# Altium footprint library Capacitors.PcbLib: 70 footprints (part 2 of 5)
Each footprint in its own frame and in the unit in brackets; x right, y up, seen from the top. Pads: shape width x height; smd on the part's side, far side on the other; paste and mask are expansions set on the pad; w line width, h text height; cw(c..) or ccw(c..) is an arc to the next point about the centre after c.
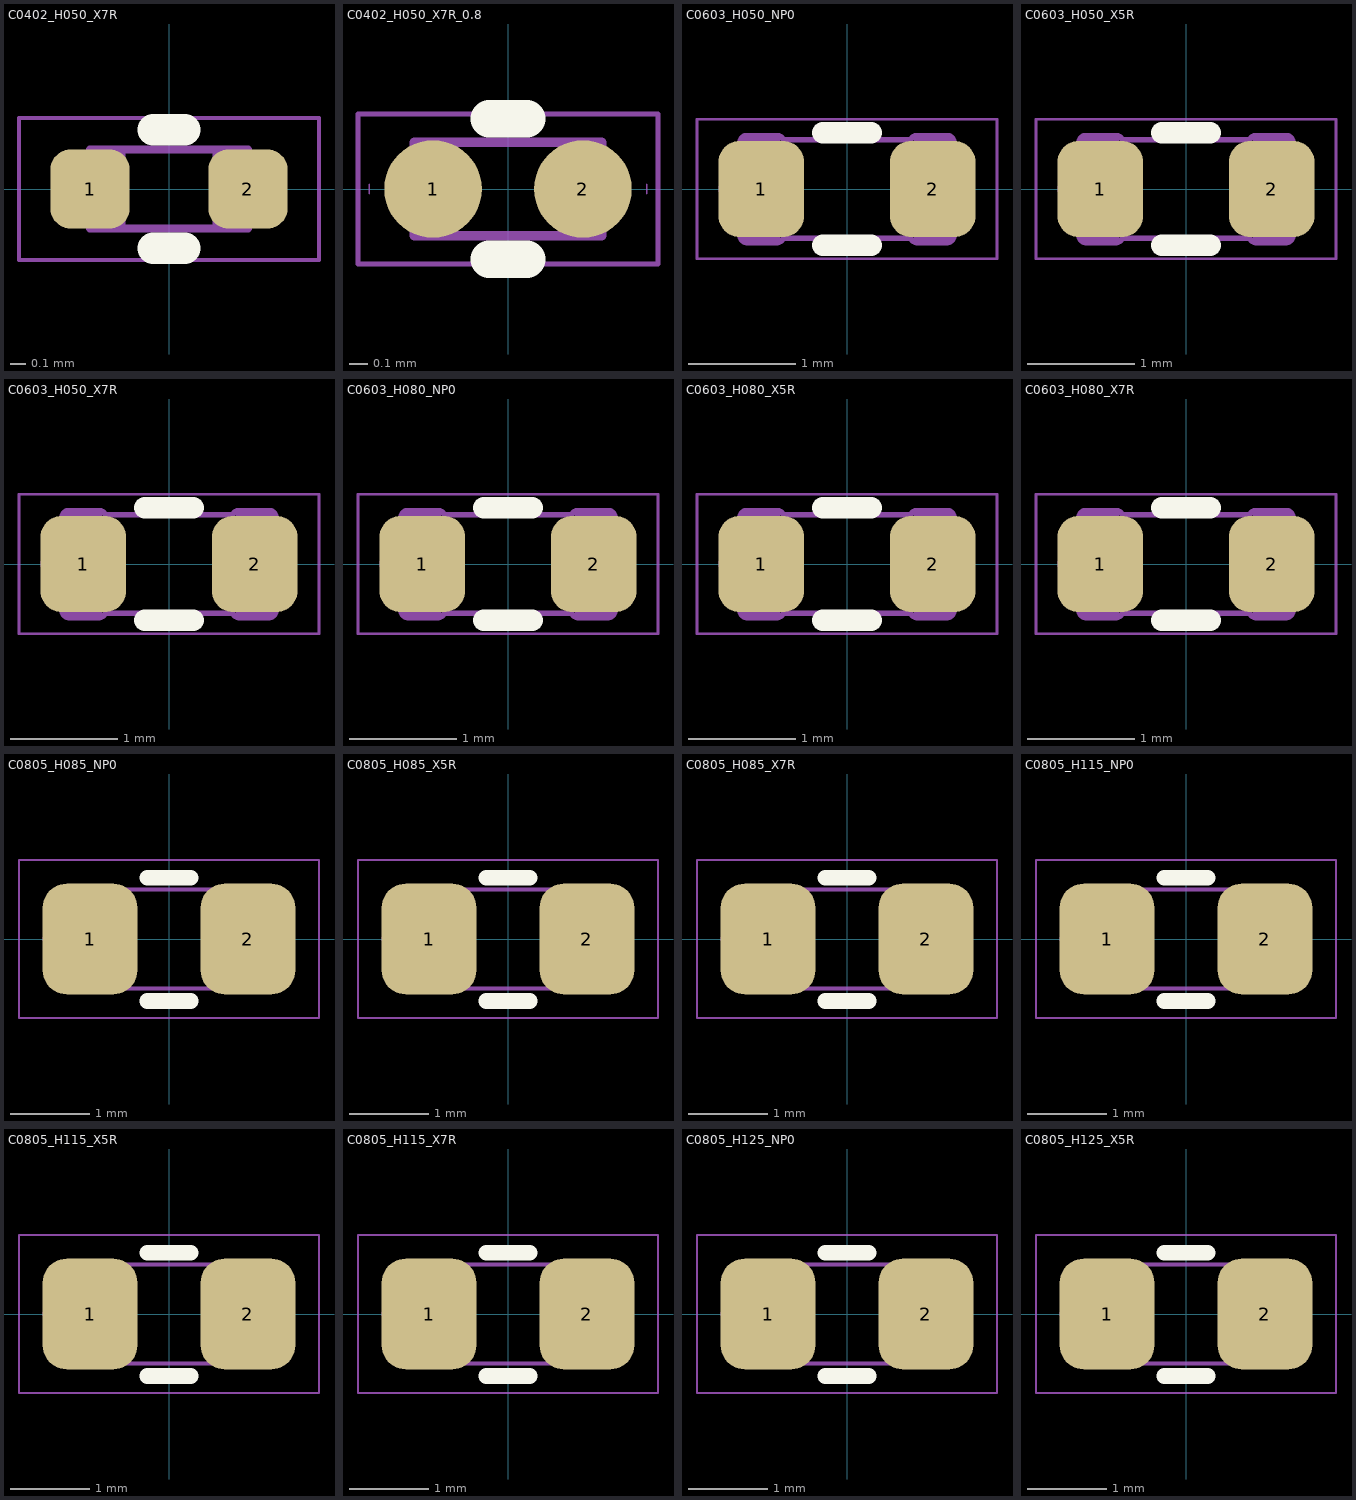
[diagram p1: the footprints below, top view; thin cyan lines are the x and y axes]

## C0402_H050_X7R [mm] "SMD040210X05MM"
height 0.5
pads (2):
  rrect50% 0.5x0.5 smd mask+0.05: 1(-0.5,0) 2(0.5,0)
Top Overlay:
  lines w0.2: -0.1,-0.375 0.1,-0.375 ; -0.1,0.375 0.1,0.375
Top Courtyard:
  lines w0.025: -0.95,-0.45 -0.95,0.45 0.95,0.45 0.95,-0.45 -0.95,-0.45
Top Assembly:
  lines w0.01: -0.74,-0.025 -0.74,0.025 ; 0.74,-0.025 0.74,0.025
  lines w0.05: -0.45,-0.25 -0.45,0.25 ; -0.4,-0.25 -0.4,0.25 ; -0.35,-0.25 -0.35,0.25 ; -0.3,-0.25 -0.3,0.25 ; 0.3,-0.25 0.3,0.25 ; 0.35,-0.25 0.35,0.25 ; 0.4,-0.25 0.4,0.25 ; 0.45,-0.25 0.45,0.25 ; -0.5,-0.25 0.5,-0.25 0.5,0.25 -0.5,0.25 -0.5,-0.25
  text ".Designator" at -2.252,0.574 h1
3D body "C0402_H050_X7R.x_t": height 0.5, standoff 0, extent -0.5,-0.25 0.5,0.25

## C0402_H050_X7R_0.8 [mm] "SMD040210X05MM for BGA with 0.8mm pitch"
height 0.5
pads (2):
  round 0.52 smd paste-0.025 mask+0.04: 1(-0.4,0) 2(0.4,0)
Top Overlay:
  lines w0.2: -0.1,-0.375 0.1,-0.375 ; -0.1,0.375 0.1,0.375
Top Courtyard:
  lines w0.025: -0.8,-0.4 0.8,-0.4 0.8,0.4 -0.8,0.4 -0.8,-0.4
Top Assembly:
  lines w0.01: -0.74,-0.025 -0.74,0.025 ; 0.74,-0.025 0.74,0.025
  lines w0.05: -0.45,-0.25 -0.45,0.25 ; -0.4,-0.25 -0.4,0.25 ; -0.35,-0.25 -0.35,0.25 ; -0.3,-0.25 -0.3,0.25 ; 0.3,-0.25 0.3,0.25 ; 0.35,-0.25 0.35,0.25 ; 0.4,-0.25 0.4,0.25 ; 0.45,-0.25 0.45,0.25 ; -0.5,-0.25 0.5,-0.25 0.5,0.25 -0.5,0.25 -0.5,-0.25
  text ".Designator" at -2.252,0.574 h1
3D body "C0402_H050_X7R.x_t": height 0.5, standoff 0, extent -0.5,-0.25 0.5,0.25

## C0603_H050_NP0 [mm] "SMD060316X08MM"
height 0.5
pads (2):
  rrect50% 0.8x0.9 smd mask+0.05: 1(-0.8,0) 2(0.8,0)
Top Overlay:
  lines w0.2: -0.225,-0.525 0.225,-0.525 ; -0.225,0.525 0.225,0.525
Top Courtyard:
  lines w0.025: -1.4,-0.65 -1.4,0.65 1.4,0.65 1.4,-0.65 -1.4,-0.65
Top Assembly:
  lines w0.01: -1.19,-0.025 -1.19,0.025 ; 1.19,-0.025 1.19,0.025
  lines w0.05: -0.95,-0.5 -0.95,0.5 ; -0.9,-0.5 -0.9,0.5 ; -0.85,-0.5 -0.85,0.5 ; -0.8,-0.5 -0.8,0.5 ; -0.75,-0.5 -0.75,0.5 ; -0.7,-0.5 -0.7,0.5 ; -0.65,-0.5 -0.65,0.5 ; 0.596,0.459 cw(c0.652,0.44) 0.653,0.5 0.656,0.5 0.936,0.5 cw(c0.936,0.44) 0.996,0.44 0.996,-0.44 cw(c0.936,-0.44) 0.936,-0.5 0.656,-0.5 0.652,-0.5 ; 0.65,-0.5 0.65,0.5 ; 0.7,-0.5 0.7,0.5 ; 0.75,-0.5 0.75,0.5 ; 0.8,-0.5 0.8,0.5 ; 0.85,-0.5 0.85,0.5 ; 0.9,-0.5 0.9,0.5 ; 0.95,-0.5 0.95,0.5 ; -0.596,-0.46 cw(c-0.652,-0.44) -0.652,-0.5 -0.656,-0.5 -0.936,-0.5 cw(c-0.936,-0.44) -0.996,-0.44 -0.996,0.44 cw(c-0.936,0.44) -0.936,0.5 -0.656,0.5 -0.653,0.5 cw(c-0.652,0.44) -0.596,0.46 ; -0.596,-0.46 0.596,-0.46 ; -0.596,-0.46 -0.596,-0.442 -0.596,-0.4 -0.596,0.4 -0.596,0.442 -0.596,0.46 ; -0.596,0.46 0.596,0.46 0.596,0.442 0.596,0.4 0.596,-0.4 0.596,-0.442 0.596,-0.46 ; 0.596,-0.46 ccw(c0.652,-0.44) 0.652,-0.5 ; 0.653,-0.5 0.653,-0.5
  text ".Designator" at -2.252,0.624 h1
3D body "C0603_H050_NP0.x_t": height 0.5, standoff 0, extent -0.8,-0.4 0.8,0.4

## C0603_H050_X5R [mm] "SMD060316X08MM"
height 0.5
pads (2):
  rrect50% 0.8x0.9 smd mask+0.05: 1(-0.8,0) 2(0.8,0)
Top Overlay:
  lines w0.2: -0.225,-0.525 0.225,-0.525 ; -0.225,0.525 0.225,0.525
Top Courtyard:
  lines w0.025: -1.4,-0.65 1.4,-0.65 1.4,0.65 -1.4,0.65 -1.4,-0.65
Top Assembly:
  lines w0.01: -1.19,-0.025 -1.19,0.025 ; 1.19,-0.025 1.19,0.025
  lines w0.05: -0.95,-0.5 -0.95,0.5 ; -0.9,-0.5 -0.9,0.5 ; -0.85,-0.5 -0.85,0.5 ; -0.8,-0.5 -0.8,0.5 ; -0.75,-0.5 -0.75,0.5 ; -0.7,-0.5 -0.7,0.5 ; -0.65,-0.5 -0.65,0.5 ; 0.596,0.459 cw(c0.652,0.44) 0.653,0.5 0.656,0.5 0.936,0.5 cw(c0.936,0.44) 0.996,0.44 0.996,-0.44 cw(c0.936,-0.44) 0.936,-0.5 0.656,-0.5 0.652,-0.5 ; 0.65,-0.5 0.65,0.5 ; 0.7,-0.5 0.7,0.5 ; 0.75,-0.5 0.75,0.5 ; 0.8,-0.5 0.8,0.5 ; 0.85,-0.5 0.85,0.5 ; 0.9,-0.5 0.9,0.5 ; 0.95,-0.5 0.95,0.5 ; -0.596,-0.46 cw(c-0.652,-0.44) -0.652,-0.5 -0.656,-0.5 -0.936,-0.5 cw(c-0.936,-0.44) -0.996,-0.44 -0.996,0.44 cw(c-0.936,0.44) -0.936,0.5 -0.656,0.5 -0.653,0.5 cw(c-0.652,0.44) -0.596,0.46 ; -0.596,-0.46 0.596,-0.46 ; -0.596,-0.46 -0.596,-0.442 -0.596,-0.4 -0.596,0.4 -0.596,0.442 -0.596,0.46 ; -0.596,0.46 0.596,0.46 0.596,0.442 0.596,0.4 0.596,-0.4 0.596,-0.442 0.596,-0.46 ; 0.596,-0.46 ccw(c0.652,-0.44) 0.652,-0.5 ; 0.653,-0.5 0.653,-0.5
  text ".Designator" at -2.252,0.624 h1
3D body "C0603_H050_X5R.x_t": height 0.5, standoff 0, extent -0.8,-0.4 0.8,0.4

## C0603_H050_X7R [mm] "SMD060316X08MM"
height 0.5
pads (2):
  rrect50% 0.8x0.9 smd mask+0.05: 1(-0.8,0) 2(0.8,0)
Top Overlay:
  lines w0.2: -0.225,-0.525 0.225,-0.525 ; -0.225,0.525 0.225,0.525
Top Courtyard:
  lines w0.025: -1.4,-0.65 -1.4,0.65 1.4,0.65 1.4,-0.65 -1.4,-0.65
Top Assembly:
  lines w0.01: -1.19,-0.025 -1.19,0.025 ; 1.19,-0.025 1.19,0.025
  lines w0.05: -0.95,-0.5 -0.95,0.5 ; -0.9,-0.5 -0.9,0.5 ; -0.85,-0.5 -0.85,0.5 ; -0.8,-0.5 -0.8,0.5 ; -0.75,-0.5 -0.75,0.5 ; -0.7,-0.5 -0.7,0.5 ; -0.65,-0.5 -0.65,0.5 ; 0.596,0.459 cw(c0.652,0.44) 0.653,0.5 0.656,0.5 0.936,0.5 cw(c0.936,0.44) 0.996,0.44 0.996,-0.44 cw(c0.936,-0.44) 0.936,-0.5 0.656,-0.5 0.652,-0.5 ; 0.65,-0.5 0.65,0.5 ; 0.7,-0.5 0.7,0.5 ; 0.75,-0.5 0.75,0.5 ; 0.8,-0.5 0.8,0.5 ; 0.85,-0.5 0.85,0.5 ; 0.9,-0.5 0.9,0.5 ; 0.95,-0.5 0.95,0.5 ; -0.596,-0.46 cw(c-0.652,-0.44) -0.652,-0.5 -0.656,-0.5 -0.936,-0.5 cw(c-0.936,-0.44) -0.996,-0.44 -0.996,0.44 cw(c-0.936,0.44) -0.936,0.5 -0.656,0.5 -0.653,0.5 cw(c-0.652,0.44) -0.596,0.46 ; -0.596,-0.46 -0.596,-0.442 -0.596,-0.4 -0.596,0.4 -0.596,0.442 -0.596,0.46 ; -0.596,-0.46 0.596,-0.46 ; -0.596,0.46 0.596,0.46 0.596,0.442 0.596,0.4 0.596,-0.4 0.596,-0.442 0.596,-0.46 ; 0.596,-0.46 ccw(c0.652,-0.44) 0.652,-0.5 ; 0.653,-0.5 0.653,-0.5
  text ".Designator" at -2.252,0.624 h1
3D body "C0603_H050_X7R.x_t": height 0.5, standoff 0, extent -0.8,-0.4 0.8,0.4

## C0603_H080_NP0 [mm] "SMD060316X08MM"
height 0.8
pads (2):
  rrect50% 0.8x0.9 smd mask+0.05: 1(-0.8,0) 2(0.8,0)
Top Overlay:
  lines w0.2: -0.225,-0.525 0.225,-0.525 ; -0.225,0.525 0.225,0.525
Top Courtyard:
  lines w0.025: -1.4,-0.65 -1.4,0.65 1.4,0.65 1.4,-0.65 -1.4,-0.65
Top Assembly:
  lines w0.01: -1.19,-0.025 -1.19,0.025 ; 1.19,-0.025 1.19,0.025
  lines w0.05: -0.95,-0.5 -0.95,0.5 ; -0.9,-0.5 -0.9,0.5 ; -0.85,-0.5 -0.85,0.5 ; -0.8,-0.5 -0.8,0.5 ; -0.75,-0.5 -0.75,0.5 ; -0.7,-0.5 -0.7,0.5 ; -0.65,-0.5 -0.65,0.5 ; 0.596,0.459 cw(c0.652,0.44) 0.653,0.5 0.656,0.5 0.936,0.5 cw(c0.936,0.44) 0.996,0.44 0.996,-0.44 cw(c0.936,-0.44) 0.936,-0.5 0.656,-0.5 0.652,-0.5 ; 0.65,-0.5 0.65,0.5 ; 0.7,-0.5 0.7,0.5 ; 0.75,-0.5 0.75,0.5 ; 0.8,-0.5 0.8,0.5 ; 0.85,-0.5 0.85,0.5 ; 0.9,-0.5 0.9,0.5 ; 0.95,-0.5 0.95,0.5 ; -0.596,-0.46 cw(c-0.652,-0.44) -0.652,-0.5 -0.656,-0.5 -0.936,-0.5 cw(c-0.936,-0.44) -0.996,-0.44 -0.996,0.44 cw(c-0.936,0.44) -0.936,0.5 -0.656,0.5 -0.653,0.5 cw(c-0.652,0.44) -0.596,0.46 ; -0.596,-0.46 -0.596,-0.442 -0.596,-0.4 -0.596,0.4 -0.596,0.442 -0.596,0.46 ; -0.596,-0.46 0.596,-0.46 ; -0.596,0.46 0.596,0.46 0.596,0.442 0.596,0.4 0.596,-0.4 0.596,-0.442 0.596,-0.46 ; 0.596,-0.46 ccw(c0.652,-0.44) 0.652,-0.5 ; 0.653,-0.5 0.653,-0.5
  text ".Designator" at -2.252,0.624 h1
3D body "C0603_H080_NP0.x_t": height 0.8, standoff 0, extent -0.8,-0.4 0.8,0.4

## C0603_H080_X5R [mm] "SMD060316X08MM"
height 0.8
pads (2):
  rrect50% 0.8x0.9 smd mask+0.05: 1(-0.8,0) 2(0.8,0)
Top Overlay:
  lines w0.2: -0.225,-0.525 0.225,-0.525 ; -0.225,0.525 0.225,0.525
Top Courtyard:
  lines w0.025: -1.4,-0.65 -1.4,0.65 1.4,0.65 1.4,-0.65 -1.4,-0.65
Top Assembly:
  lines w0.01: -1.19,-0.025 -1.19,0.025 ; 1.19,-0.025 1.19,0.025
  lines w0.05: -0.95,-0.5 -0.95,0.5 ; -0.9,-0.5 -0.9,0.5 ; -0.85,-0.5 -0.85,0.5 ; -0.8,-0.5 -0.8,0.5 ; -0.75,-0.5 -0.75,0.5 ; -0.7,-0.5 -0.7,0.5 ; -0.65,-0.5 -0.65,0.5 ; 0.596,0.459 cw(c0.652,0.44) 0.653,0.5 0.656,0.5 0.936,0.5 cw(c0.936,0.44) 0.996,0.44 0.996,-0.44 cw(c0.936,-0.44) 0.936,-0.5 0.656,-0.5 0.652,-0.5 ; 0.65,-0.5 0.65,0.5 ; 0.7,-0.5 0.7,0.5 ; 0.75,-0.5 0.75,0.5 ; 0.8,-0.5 0.8,0.5 ; 0.85,-0.5 0.85,0.5 ; 0.9,-0.5 0.9,0.5 ; 0.95,-0.5 0.95,0.5 ; -0.596,-0.46 cw(c-0.652,-0.44) -0.652,-0.5 -0.656,-0.5 -0.936,-0.5 cw(c-0.936,-0.44) -0.996,-0.44 -0.996,0.44 cw(c-0.936,0.44) -0.936,0.5 -0.656,0.5 -0.653,0.5 cw(c-0.652,0.44) -0.596,0.46 ; -0.596,-0.46 -0.596,-0.442 -0.596,-0.4 -0.596,0.4 -0.596,0.442 -0.596,0.46 ; -0.596,-0.46 0.596,-0.46 ; -0.596,0.46 0.596,0.46 0.596,0.442 0.596,0.4 0.596,-0.4 0.596,-0.442 0.596,-0.46 ; 0.596,-0.46 ccw(c0.652,-0.44) 0.652,-0.5 ; 0.653,-0.5 0.653,-0.5
  text ".Designator" at -2.252,0.624 h1
3D body "C0603_H080_X5R.x_t": height 0.8, standoff 0, extent -0.8,-0.4 0.8,0.4

## C0603_H080_X7R [mm] "SMD060316X08MM"
height 0.8
pads (2):
  rrect50% 0.8x0.9 smd mask+0.05: 1(-0.8,0) 2(0.8,0)
Top Overlay:
  lines w0.2: -0.225,-0.525 0.225,-0.525 ; -0.225,0.525 0.225,0.525
Top Courtyard:
  lines w0.025: -1.4,-0.65 -1.4,0.65 1.4,0.65 1.4,-0.65 -1.4,-0.65
Top Assembly:
  lines w0.01: -1.19,-0.025 -1.19,0.025 ; 1.19,-0.025 1.19,0.025
  lines w0.05: -0.95,-0.5 -0.95,0.5 ; -0.9,-0.5 -0.9,0.5 ; -0.85,-0.5 -0.85,0.5 ; -0.8,-0.5 -0.8,0.5 ; -0.75,-0.5 -0.75,0.5 ; -0.7,-0.5 -0.7,0.5 ; -0.65,-0.5 -0.65,0.5 ; 0.596,0.459 cw(c0.652,0.44) 0.653,0.5 0.656,0.5 0.936,0.5 cw(c0.936,0.44) 0.996,0.44 0.996,-0.44 cw(c0.936,-0.44) 0.936,-0.5 0.656,-0.5 0.652,-0.5 ; 0.65,-0.5 0.65,0.5 ; 0.7,-0.5 0.7,0.5 ; 0.75,-0.5 0.75,0.5 ; 0.8,-0.5 0.8,0.5 ; 0.85,-0.5 0.85,0.5 ; 0.9,-0.5 0.9,0.5 ; 0.95,-0.5 0.95,0.5 ; -0.596,-0.46 cw(c-0.652,-0.44) -0.652,-0.5 -0.656,-0.5 -0.936,-0.5 cw(c-0.936,-0.44) -0.996,-0.44 -0.996,0.44 cw(c-0.936,0.44) -0.936,0.5 -0.656,0.5 -0.653,0.5 cw(c-0.652,0.44) -0.596,0.46 ; -0.596,-0.46 0.596,-0.46 ; -0.596,-0.46 -0.596,-0.442 -0.596,-0.4 -0.596,0.4 -0.596,0.442 -0.596,0.46 ; -0.596,0.46 0.596,0.46 0.596,0.442 0.596,0.4 0.596,-0.4 0.596,-0.442 0.596,-0.46 ; 0.596,-0.46 ccw(c0.652,-0.44) 0.652,-0.5 ; 0.653,-0.5 0.653,-0.5
  text ".Designator" at -2.252,0.624 h1
3D body "C0603_H080_X7R.x_t": height 0.8, standoff 0, extent -0.8,-0.4 0.8,0.4

## C0805_H085_NP0 [mm] "SMD080512X20MM"
height 0.85
pads (2):
  rrect50% 1.2x1.4 smd mask+0.05: 1(-1,0) 2(1,0)
Top Overlay:
  lines w0.2: -0.275,0.775 0.275,0.775 ; -0.275,-0.785 0.275,-0.785
Top Courtyard:
  lines w0.025: -1.9,-1 -1.9,1 1.9,1 1.9,-1 -1.9,-1
Top Assembly:
  lines w0.01: -1.59,-0.025 -1.59,0.025 ; 1.59,-0.025 1.59,0.025
  lines w0.05: -1.1,-0.65 -1.1,0.65 ; -1.05,-0.65 -1.05,0.65 ; -1,-0.65 -1,0.65 ; -0.95,-0.65 -0.95,0.65 ; -0.9,-0.65 -0.9,0.65 ; -0.85,-0.65 -0.85,0.65 ; -0.8,-0.65 -0.8,0.65 ; -0.75,-0.65 -0.75,0.65 ; -0.725,-0.624 cw(c-0.782,-0.605) -0.782,-0.665 -0.785,-0.665 -1.065,-0.665 cw(c-1.065,-0.605) -1.125,-0.605 -1.125,0.605 cw(c-1.065,0.605) -1.065,0.665 -0.785,0.665 -0.782,0.665 cw(c-0.782,0.605) -0.725,0.624 ; -0.725,0.565 -0.725,0.608 -0.725,0.625 ; 0.725,-0.565 0.725,-0.608 0.725,-0.625 ; 0.725,0.624 cw(c0.782,0.605) 0.782,0.665 0.785,0.665 1.065,0.665 cw(c1.065,0.605) 1.125,0.605 1.125,-0.605 cw(c1.065,-0.605) 1.065,-0.665 0.785,-0.665 0.782,-0.665 cw(c0.782,-0.605) 0.725,-0.624 ; 0.75,-0.65 0.75,0.65 ; 0.8,-0.65 0.8,0.65 ; 0.85,-0.65 0.85,0.65 ; 0.9,-0.65 0.9,0.65 ; 0.95,-0.65 0.95,0.65 ; 1,-0.65 1,0.65 ; 1.05,-0.65 1.05,0.65 ; 1.1,-0.65 1.1,0.65 ; -0.725,0.624 0.725,0.625 0.725,0.607 0.725,0.565 0.725,-0.625 ; -0.725,0.625 -0.725,-0.565 -0.725,-0.607 -0.725,-0.625 0.725,-0.624
  text ".Designator" at -2.252,-0.226 h1
3D body "C0805_H085_NP0.x_t": height 0.85, standoff 0, extent -1,-0.625 1,0.625

## C0805_H085_X5R [mm] "SMD080512X20MM"
height 0.85
pads (2):
  rrect50% 1.2x1.4 smd mask+0.05: 1(-1,0) 2(1,0)
Top Overlay:
  lines w0.2: -0.275,0.775 0.275,0.775 ; -0.275,-0.785 0.275,-0.785
Top Courtyard:
  lines w0.025: -1.9,-1 1.9,-1 1.9,1 -1.9,1 -1.9,-1
Top Assembly:
  lines w0.01: -1.59,-0.025 -1.59,0.025 ; 1.59,-0.025 1.59,0.025
  lines w0.05: -1.1,-0.65 -1.1,0.65 ; -1.05,-0.65 -1.05,0.65 ; -1,-0.65 -1,0.65 ; -0.95,-0.65 -0.95,0.65 ; -0.9,-0.65 -0.9,0.65 ; -0.85,-0.65 -0.85,0.65 ; -0.8,-0.65 -0.8,0.65 ; -0.75,-0.65 -0.75,0.65 ; -0.725,-0.624 cw(c-0.782,-0.605) -0.782,-0.665 -0.785,-0.665 -1.065,-0.665 cw(c-1.065,-0.605) -1.125,-0.605 -1.125,0.605 cw(c-1.065,0.605) -1.065,0.665 -0.785,0.665 -0.782,0.665 cw(c-0.782,0.605) -0.725,0.624 ; -0.725,0.565 -0.725,0.608 -0.725,0.625 ; 0.725,-0.565 0.725,-0.608 0.725,-0.625 ; 0.725,0.624 cw(c0.782,0.605) 0.782,0.665 0.785,0.665 1.065,0.665 cw(c1.065,0.605) 1.125,0.605 1.125,-0.605 cw(c1.065,-0.605) 1.065,-0.665 0.785,-0.665 0.782,-0.665 cw(c0.782,-0.605) 0.725,-0.624 ; 0.75,-0.65 0.75,0.65 ; 0.8,-0.65 0.8,0.65 ; 0.85,-0.65 0.85,0.65 ; 0.9,-0.65 0.9,0.65 ; 0.95,-0.65 0.95,0.65 ; 1,-0.65 1,0.65 ; 1.05,-0.65 1.05,0.65 ; 1.1,-0.65 1.1,0.65 ; -0.725,0.624 0.725,0.625 0.725,0.607 0.725,0.565 0.725,-0.625 ; -0.725,0.625 -0.725,-0.565 -0.725,-0.607 -0.725,-0.625 0.725,-0.624
  text ".Designator" at -2.252,-0.226 h1
3D body "C0805_H085_X5R.x_t": height 0.85, standoff 0, extent -1,-0.625 1,0.625

## C0805_H085_X7R [mm] "SMD080512X20MM"
height 0.85
pads (2):
  rrect50% 1.2x1.4 smd mask+0.05: 1(-1,0) 2(1,0)
Top Overlay:
  lines w0.2: -0.275,0.775 0.275,0.775 ; -0.275,-0.785 0.275,-0.785
Top Courtyard:
  lines w0.025: -1.9,-1 -1.9,1 1.9,1 1.9,-1 -1.9,-1
Top Assembly:
  lines w0.01: -1.59,-0.025 -1.59,0.025 ; 1.59,-0.025 1.59,0.025
  lines w0.05: -1.1,-0.65 -1.1,0.65 ; -1.05,-0.65 -1.05,0.65 ; -1,-0.65 -1,0.65 ; -0.95,-0.65 -0.95,0.65 ; -0.9,-0.65 -0.9,0.65 ; -0.85,-0.65 -0.85,0.65 ; -0.8,-0.65 -0.8,0.65 ; -0.75,-0.65 -0.75,0.65 ; -0.725,-0.624 cw(c-0.782,-0.605) -0.782,-0.665 -0.785,-0.665 -1.065,-0.665 cw(c-1.065,-0.605) -1.125,-0.605 -1.125,0.605 cw(c-1.065,0.605) -1.065,0.665 -0.785,0.665 -0.782,0.665 cw(c-0.782,0.605) -0.725,0.624 ; -0.725,0.565 -0.725,0.608 -0.725,0.625 ; 0.725,-0.565 0.725,-0.608 0.725,-0.625 ; 0.725,0.624 cw(c0.782,0.605) 0.782,0.665 0.785,0.665 1.065,0.665 cw(c1.065,0.605) 1.125,0.605 1.125,-0.605 cw(c1.065,-0.605) 1.065,-0.665 0.785,-0.665 0.782,-0.665 cw(c0.782,-0.605) 0.725,-0.624 ; 0.75,-0.65 0.75,0.65 ; 0.8,-0.65 0.8,0.65 ; 0.85,-0.65 0.85,0.65 ; 0.9,-0.65 0.9,0.65 ; 0.95,-0.65 0.95,0.65 ; 1,-0.65 1,0.65 ; 1.05,-0.65 1.05,0.65 ; 1.1,-0.65 1.1,0.65 ; -0.725,0.625 -0.725,-0.565 -0.725,-0.607 -0.725,-0.625 0.725,-0.624 ; -0.725,0.624 0.725,0.625 0.725,0.607 0.725,0.565 0.725,-0.625
  text ".Designator" at -2.252,-0.226 h1
3D body "C0805_H085_X7R.x_t": height 0.85, standoff 0, extent -1,-0.625 1,0.625

## C0805_H115_NP0 [mm] "SMD080512X20MM"
height 1.15
pads (2):
  rrect50% 1.2x1.4 smd mask+0.05: 1(-1,0) 2(1,0)
Top Overlay:
  lines w0.2: -0.275,0.775 0.275,0.775 ; -0.275,-0.785 0.275,-0.785
Top Courtyard:
  lines w0.025: -1.9,-1 -1.9,1 1.9,1 1.9,-1 -1.9,-1
Top Assembly:
  lines w0.01: -1.59,-0.025 -1.59,0.025 ; 1.59,-0.025 1.59,0.025
  lines w0.05: -1.1,-0.65 -1.1,0.65 ; -1.05,-0.65 -1.05,0.65 ; -1,-0.65 -1,0.65 ; -0.95,-0.65 -0.95,0.65 ; -0.9,-0.65 -0.9,0.65 ; -0.85,-0.65 -0.85,0.65 ; -0.8,-0.65 -0.8,0.65 ; -0.75,-0.65 -0.75,0.65 ; -0.725,-0.624 cw(c-0.782,-0.605) -0.782,-0.665 -0.785,-0.665 -1.065,-0.665 cw(c-1.065,-0.605) -1.125,-0.605 -1.125,0.605 cw(c-1.065,0.605) -1.065,0.665 -0.785,0.665 -0.782,0.665 cw(c-0.782,0.605) -0.725,0.624 ; -0.725,0.565 -0.725,0.608 -0.725,0.625 ; 0.725,-0.565 0.725,-0.608 0.725,-0.625 ; 0.725,0.624 cw(c0.782,0.605) 0.782,0.665 0.785,0.665 1.065,0.665 cw(c1.065,0.605) 1.125,0.605 1.125,-0.605 cw(c1.065,-0.605) 1.065,-0.665 0.785,-0.665 0.782,-0.665 cw(c0.782,-0.605) 0.725,-0.624 ; 0.75,-0.65 0.75,0.65 ; 0.8,-0.65 0.8,0.65 ; 0.85,-0.65 0.85,0.65 ; 0.9,-0.65 0.9,0.65 ; 0.95,-0.65 0.95,0.65 ; 1,-0.65 1,0.65 ; 1.05,-0.65 1.05,0.65 ; 1.1,-0.65 1.1,0.65 ; -0.725,0.625 -0.725,-0.565 -0.725,-0.607 -0.725,-0.625 0.725,-0.624 ; -0.725,0.624 0.725,0.625 0.725,0.607 0.725,0.565 0.725,-0.625
  text ".Designator" at -2.252,-0.226 h1
3D body "C0805_H115_NP0.x_t": height 1.15, standoff 0, extent -1,-0.625 1,0.625

## C0805_H115_X5R [mm] "SMD080512X20MM"
height 1.15
pads (2):
  rrect50% 1.2x1.4 smd mask+0.05: 1(-1,0) 2(1,0)
Top Overlay:
  lines w0.2: -0.275,0.775 0.275,0.775 ; -0.275,-0.785 0.275,-0.785
Top Courtyard:
  lines w0.025: -1.9,-1 -1.9,1 1.9,1 1.9,-1 -1.9,-1
Top Assembly:
  lines w0.01: -1.59,-0.025 -1.59,0.025 ; 1.59,-0.025 1.59,0.025
  lines w0.05: -1.1,-0.65 -1.1,0.65 ; -1.05,-0.65 -1.05,0.65 ; -1,-0.65 -1,0.65 ; -0.95,-0.65 -0.95,0.65 ; -0.9,-0.65 -0.9,0.65 ; -0.85,-0.65 -0.85,0.65 ; -0.8,-0.65 -0.8,0.65 ; -0.75,-0.65 -0.75,0.65 ; -0.725,-0.624 cw(c-0.782,-0.605) -0.782,-0.665 -0.785,-0.665 -1.065,-0.665 cw(c-1.065,-0.605) -1.125,-0.605 -1.125,0.605 cw(c-1.065,0.605) -1.065,0.665 -0.785,0.665 -0.782,0.665 cw(c-0.782,0.605) -0.725,0.624 ; -0.725,0.565 -0.725,0.608 -0.725,0.625 ; 0.725,-0.565 0.725,-0.608 0.725,-0.625 ; 0.725,0.624 cw(c0.782,0.605) 0.782,0.665 0.785,0.665 1.065,0.665 cw(c1.065,0.605) 1.125,0.605 1.125,-0.605 cw(c1.065,-0.605) 1.065,-0.665 0.785,-0.665 0.782,-0.665 cw(c0.782,-0.605) 0.725,-0.624 ; 0.75,-0.65 0.75,0.65 ; 0.8,-0.65 0.8,0.65 ; 0.85,-0.65 0.85,0.65 ; 0.9,-0.65 0.9,0.65 ; 0.95,-0.65 0.95,0.65 ; 1,-0.65 1,0.65 ; 1.05,-0.65 1.05,0.65 ; 1.1,-0.65 1.1,0.65 ; -0.725,0.624 0.725,0.625 0.725,0.607 0.725,0.565 0.725,-0.625 ; -0.725,0.625 -0.725,-0.565 -0.725,-0.607 -0.725,-0.625 0.725,-0.624
  text ".Designator" at -2.252,-0.226 h1
3D body "C0805_H115_X5R.x_t": height 1.15, standoff 0, extent -1,-0.625 1,0.625

## C0805_H115_X7R [mm] "SMD080512X20MM"
height 1.15
pads (2):
  rrect50% 1.2x1.4 smd mask+0.05: 1(-1,0) 2(1,0)
Top Overlay:
  lines w0.2: -0.275,0.775 0.275,0.775 ; -0.275,-0.785 0.275,-0.785
Top Courtyard:
  lines w0.025: -1.9,-1 -1.9,1 1.9,1 1.9,-1 -1.9,-1
Top Assembly:
  lines w0.01: -1.59,-0.025 -1.59,0.025 ; 1.59,-0.025 1.59,0.025
  lines w0.05: -1.1,-0.65 -1.1,0.65 ; -1.05,-0.65 -1.05,0.65 ; -1,-0.65 -1,0.65 ; -0.95,-0.65 -0.95,0.65 ; -0.9,-0.65 -0.9,0.65 ; -0.85,-0.65 -0.85,0.65 ; -0.8,-0.65 -0.8,0.65 ; -0.75,-0.65 -0.75,0.65 ; -0.725,-0.624 cw(c-0.782,-0.605) -0.782,-0.665 -0.785,-0.665 -1.065,-0.665 cw(c-1.065,-0.605) -1.125,-0.605 -1.125,0.605 cw(c-1.065,0.605) -1.065,0.665 -0.785,0.665 -0.782,0.665 cw(c-0.782,0.605) -0.725,0.624 ; -0.725,0.565 -0.725,0.608 -0.725,0.625 ; 0.725,-0.565 0.725,-0.608 0.725,-0.625 ; 0.725,0.624 cw(c0.782,0.605) 0.782,0.665 0.785,0.665 1.065,0.665 cw(c1.065,0.605) 1.125,0.605 1.125,-0.605 cw(c1.065,-0.605) 1.065,-0.665 0.785,-0.665 0.782,-0.665 cw(c0.782,-0.605) 0.725,-0.624 ; 0.75,-0.65 0.75,0.65 ; 0.8,-0.65 0.8,0.65 ; 0.85,-0.65 0.85,0.65 ; 0.9,-0.65 0.9,0.65 ; 0.95,-0.65 0.95,0.65 ; 1,-0.65 1,0.65 ; 1.05,-0.65 1.05,0.65 ; 1.1,-0.65 1.1,0.65 ; -0.725,0.625 -0.725,-0.565 -0.725,-0.607 -0.725,-0.625 0.725,-0.624 ; -0.725,0.624 0.725,0.625 0.725,0.607 0.725,0.565 0.725,-0.625
  text ".Designator" at -2.252,-0.226 h1
3D body "C0805_H115_X7R.x_t": height 1.15, standoff 0, extent -1,-0.625 1,0.625

## C0805_H125_NP0 [mm] "SMD080512X20MM"
height 1.25
pads (2):
  rrect50% 1.2x1.4 smd mask+0.05: 1(-1,0) 2(1,0)
Top Overlay:
  lines w0.2: -0.275,0.775 0.275,0.775 ; -0.275,-0.785 0.275,-0.785
Top Courtyard:
  lines w0.025: -1.9,-1 -1.9,1 1.9,1 1.9,-1 -1.9,-1
Top Assembly:
  lines w0.01: -1.59,-0.025 -1.59,0.025 ; 1.59,-0.025 1.59,0.025
  lines w0.05: -1.1,-0.65 -1.1,0.65 ; -1.05,-0.65 -1.05,0.65 ; -1,-0.65 -1,0.65 ; -0.95,-0.65 -0.95,0.65 ; -0.9,-0.65 -0.9,0.65 ; -0.85,-0.65 -0.85,0.65 ; -0.8,-0.65 -0.8,0.65 ; -0.75,-0.65 -0.75,0.65 ; -0.725,-0.624 cw(c-0.782,-0.605) -0.782,-0.665 -0.785,-0.665 -1.065,-0.665 cw(c-1.065,-0.605) -1.125,-0.605 -1.125,0.605 cw(c-1.065,0.605) -1.065,0.665 -0.785,0.665 -0.782,0.665 cw(c-0.782,0.605) -0.725,0.624 ; -0.725,0.565 -0.725,0.608 -0.725,0.625 ; 0.725,-0.565 0.725,-0.608 0.725,-0.625 ; 0.725,0.624 cw(c0.782,0.605) 0.782,0.665 0.785,0.665 1.065,0.665 cw(c1.065,0.605) 1.125,0.605 1.125,-0.605 cw(c1.065,-0.605) 1.065,-0.665 0.785,-0.665 0.782,-0.665 cw(c0.782,-0.605) 0.725,-0.624 ; 0.75,-0.65 0.75,0.65 ; 0.8,-0.65 0.8,0.65 ; 0.85,-0.65 0.85,0.65 ; 0.9,-0.65 0.9,0.65 ; 0.95,-0.65 0.95,0.65 ; 1,-0.65 1,0.65 ; 1.05,-0.65 1.05,0.65 ; 1.1,-0.65 1.1,0.65 ; -0.725,0.625 -0.725,-0.565 -0.725,-0.607 -0.725,-0.625 0.725,-0.624 ; -0.725,0.624 0.725,0.625 0.725,0.607 0.725,0.565 0.725,-0.625
  text ".Designator" at -2.252,-0.226 h1
3D body "C0805_H125_NP0.x_t": height 1.25, standoff 0, extent -1,-0.625 1,0.625

## C0805_H125_X5R [mm] "SMD080512X20MM"
height 1.25
pads (2):
  rrect50% 1.2x1.4 smd mask+0.05: 1(-1,0) 2(1,0)
Top Overlay:
  lines w0.2: -0.275,0.775 0.275,0.775 ; -0.275,-0.785 0.275,-0.785
Top Courtyard:
  lines w0.025: -1.9,-1 -1.9,1 1.9,1 1.9,-1 -1.9,-1
Top Assembly:
  lines w0.01: -1.59,-0.025 -1.59,0.025 ; 1.59,-0.025 1.59,0.025
  lines w0.05: -1.1,-0.65 -1.1,0.65 ; -1.05,-0.65 -1.05,0.65 ; -1,-0.65 -1,0.65 ; -0.95,-0.65 -0.95,0.65 ; -0.9,-0.65 -0.9,0.65 ; -0.85,-0.65 -0.85,0.65 ; -0.8,-0.65 -0.8,0.65 ; -0.75,-0.65 -0.75,0.65 ; -0.725,-0.624 cw(c-0.782,-0.605) -0.782,-0.665 -0.785,-0.665 -1.065,-0.665 cw(c-1.065,-0.605) -1.125,-0.605 -1.125,0.605 cw(c-1.065,0.605) -1.065,0.665 -0.785,0.665 -0.782,0.665 cw(c-0.782,0.605) -0.725,0.624 ; -0.725,0.565 -0.725,0.608 -0.725,0.625 ; 0.725,-0.565 0.725,-0.608 0.725,-0.625 ; 0.725,0.624 cw(c0.782,0.605) 0.782,0.665 0.785,0.665 1.065,0.665 cw(c1.065,0.605) 1.125,0.605 1.125,-0.605 cw(c1.065,-0.605) 1.065,-0.665 0.785,-0.665 0.782,-0.665 cw(c0.782,-0.605) 0.725,-0.624 ; 0.75,-0.65 0.75,0.65 ; 0.8,-0.65 0.8,0.65 ; 0.85,-0.65 0.85,0.65 ; 0.9,-0.65 0.9,0.65 ; 0.95,-0.65 0.95,0.65 ; 1,-0.65 1,0.65 ; 1.05,-0.65 1.05,0.65 ; 1.1,-0.65 1.1,0.65 ; -0.725,0.625 -0.725,-0.565 -0.725,-0.607 -0.725,-0.625 0.725,-0.624 ; -0.725,0.624 0.725,0.625 0.725,0.607 0.725,0.565 0.725,-0.625
  text ".Designator" at -2.252,-0.226 h1
3D body "C0805_H125_X5R.x_t": height 1.25, standoff 0, extent -1,-0.625 1,0.625